# Altium schematic symbol library D_SHKY_PAIR_PARALLEL.SchLib: 1 symbol
Pins are listed as number, name and electrical type; pins without a type are passive.

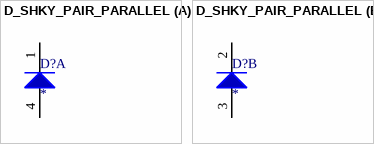
[diagram p0: symbol D_SHKY_PAIR_PARALLEL]

## D_SHKY_PAIR_PARALLEL
designator D?
part A pins: 1 "Anode", 4 "Cathode"
part B pins: 2 "Anode", 3 "Cathode"